# Altium footprint library BA178M05FP-E2.PcbLib: 3 footprints
Each footprint in its own frame and in the unit in brackets; x right, y up, seen from the top. Pads: shape width x height; smd on the part's side, far side on the other; paste and mask are expansions set on the pad; w line width, h text height; cw(c..) or ccw(c..) is an arc to the next point about the centre after c.
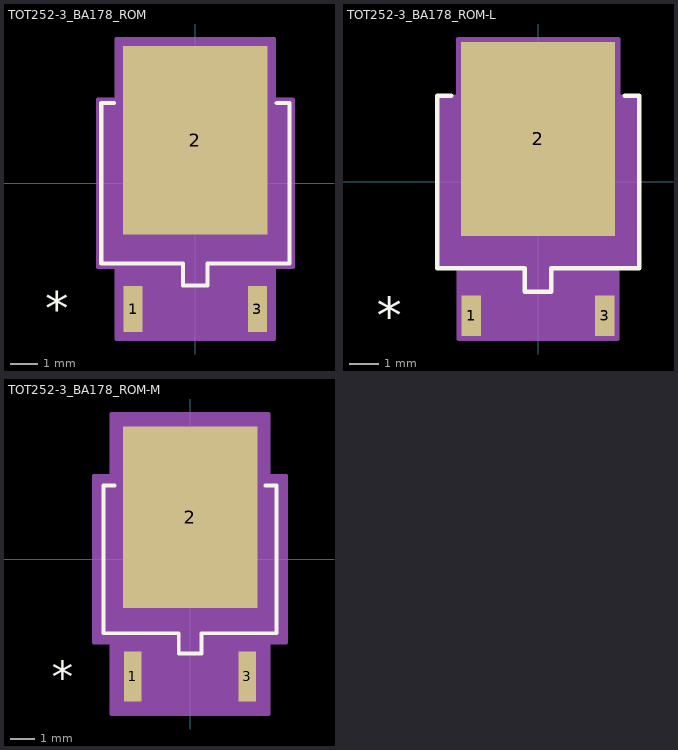
[diagram p0: the footprints below, top view; thin cyan lines are the x and y axes]

## TOT252-3_BA178_ROM [mil]
pads (3):
  rect 28x67 smd paste+0 mask+0: 1(-90.55,-183.5) 3(90.55,-183.5)
  rect 211x275 smd paste+0 mask+0: 2(0,62.5)
Top Overlay:
  lines w6: -118.6,117 -137,117 -137,-117 -18,-117 -18,-149 18,-149 18,-117 137,-117 137,117 118.6,117
  text ".Designator" at -137.5,-25 h50
  text "*" at -218.6,-208.5 h50
Mechanical 13:
  lines w1: -132,-112 132,-112 132,112 -132,112 -132,-112 ; -103.55,-203 -103.55,-112 -77.55,-112 -77.55,-203 -103.55,-203 ; -13,-144 -13,-112 13,-112 13,-144 -13,-144 ; 77.55,-203 77.55,-112 103.55,-112 103.55,-203 77.55,-203
  text "*" at -103.05,-127 h50
  text ".Designator" at -137.5,-25 h50
Mechanical 15:
  region: -142,-122 -142,122 -114.5,122 -114.5,210 114.5,210 114.5,122 142,122 142,-122 114.55,-122 114.55,-227 -114.55,-227 -114.55,-122
  lines w6: -142,-122 -142,122 -114.5,122 -114.5,210 114.5,210 114.5,122 142,122 142,-122 114.55,-122 114.55,-227 -114.55,-227 -114.55,-122 -142,-122
3D body "TOT252-3_BA178_ROM.step": height 98.11, standoff -2.01, extent -132.01,-202.99 132.01,179.02

## TOT252-3_BA178_ROM-L [mil]
pads (3):
  rect 26x55 smd paste+0 mask+0: 1(-90.55,-181.5) 3(90.55,-181.5)
  rect 209x263 smd paste+0 mask+0: 2(0,58.5)
Top Overlay:
  lines w6: -117.6,117 -137,117 -137,-117 -18,-117 -18,-149 18,-149 18,-117 137,-117 137,117 117.6,117
  text ".Designator" at -137.5,-25 h50
  text "*" at -218.6,-206.5 h50
Mechanical 13:
  lines w1: -132,-112 132,-112 132,112 -132,112 -132,-112 ; -103.55,-203 -103.55,-112 -77.55,-112 -77.55,-203 -103.55,-203 ; -13,-144 -13,-112 13,-112 13,-144 -13,-144 ; 77.55,-203 77.55,-112 103.55,-112 103.55,-203 77.55,-203
  text "*" at -103.05,-127 h50
  text ".Designator" at -137.5,-25 h50
Mechanical 15:
  region: -136,-116 -136,116 -108.5,116 -108.5,194 108.5,194 108.5,116 136,116 136,-116 107.55,-116 107.55,-213 -107.55,-213 -107.55,-116
  lines w6: -136,-116 -136,116 -108.5,116 -108.5,194 108.5,194 108.5,116 136,116 136,-116 107.55,-116 107.55,-213 -107.55,-213 -107.55,-116 -136,-116
3D body "TOT252-3_BA178_ROM.step": height 98.11, standoff -2.01, extent -132.01,-202.99 132.01,179.02

## TOT252-3_BA178_ROM-M [mil]
pads (3):
  rect 28x79 smd paste+0 mask+0: 1(-90.55,-185.5) 3(90.55,-185.5)
  rect 213x287 smd paste+0 mask+0: 2(0,66.5)
Top Overlay:
  lines w6: -119.6,117 -137,117 -137,-117 -18,-117 -18,-149 18,-149 18,-117 137,-117 137,117 119.6,117
  text ".Designator" at -137.5,-25 h50
  text "*" at -218.6,-210.5 h50
Mechanical 13:
  lines w1: -132,-112 132,-112 132,112 -132,112 -132,-112 ; -103.55,-203 -103.55,-112 -77.55,-112 -77.55,-203 -103.55,-203 ; -13,-144 -13,-112 13,-112 13,-144 -13,-144 ; 77.55,-203 77.55,-112 103.55,-112 103.55,-203 77.55,-203
  text "*" at -103.05,-127 h50
  text ".Designator" at -137.5,-25 h50
Mechanical 15:
  region: -152,-132 -152,132 -124.5,132 -124.5,230 124.5,230 124.5,132 152,132 152,-132 124.55,-132 124.55,-245 -124.55,-245 -124.55,-132
  lines w6: -152,-132 -152,132 -124.5,132 -124.5,230 124.5,230 124.5,132 152,132 152,-132 124.55,-132 124.55,-245 -124.55,-245 -124.55,-132 -152,-132
3D body "TOT252-3_BA178_ROM.step": height 98.11, standoff -2.01, extent -132.01,-202.99 132.01,179.02